# Altium footprint library PcbLib1.PcbLib: 264 footprints (part 7 of 17)
Each footprint in its own frame and in the unit in brackets; x right, y up, seen from the top. Pads: shape width x height; smd on the part's side, far side on the other; paste and mask are expansions set on the pad; w line width, h text height; cw(c..) or ccw(c..) is an arc to the next point about the centre after c.
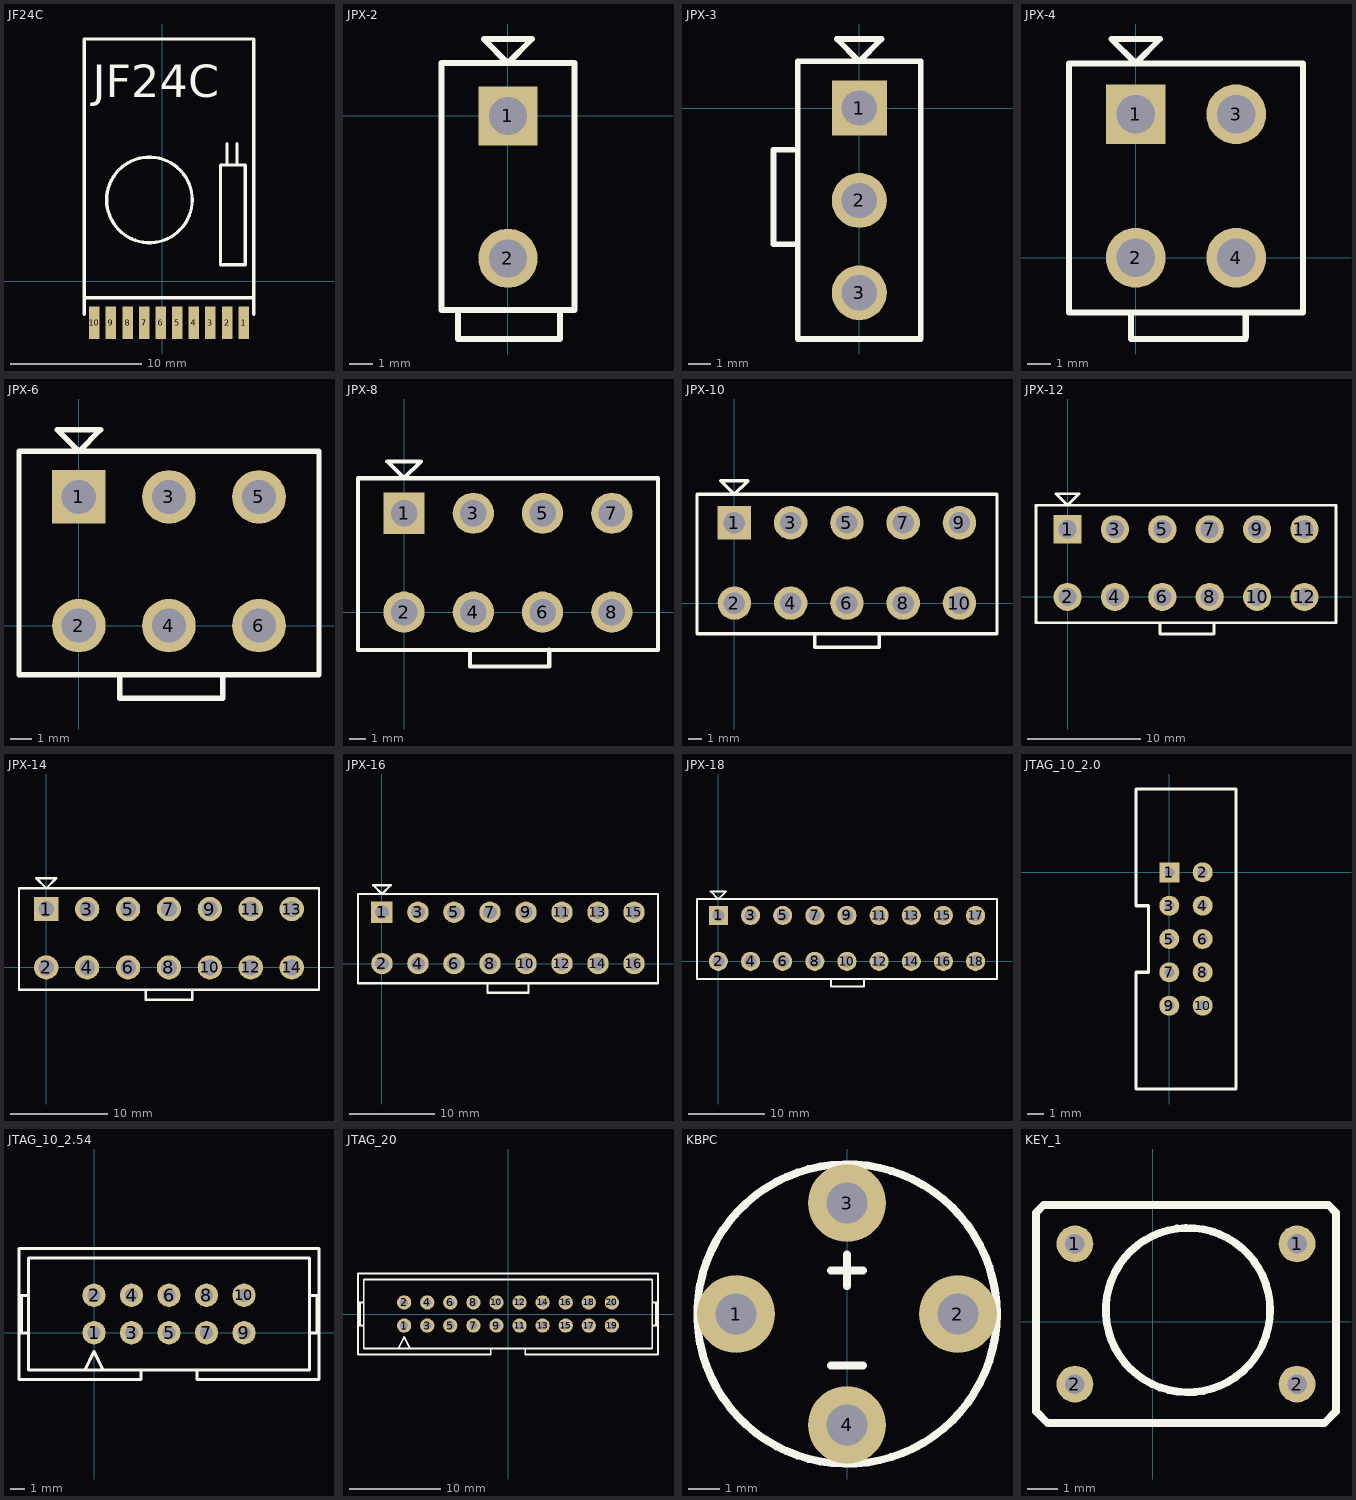
[diagram p6: the footprints below, top view; thin cyan lines are the x and y axes]

## JF24C [mm]
height 2
pads (10):
  rect 0.8x2.5 smd: 1(6.223,-3.175) 2(4.953,-3.175) 3(3.683,-3.175) 4(2.413,-3.175) 5(1.143,-3.175) 6(-0.127,-3.175) 7(-1.397,-3.175) 8(-2.667,-3.175) 9(-3.937,-3.175) 10(-5.207,-3.175)
Top Overlay:
  circle w0.254: c-0.991,6.223 r3.277
  lines w0.254: -5.969,-2.54 -5.969,18.542 6.985,18.542 6.985,-2.54 ; -5.969,-1.27 6.985,-1.27 ; 4.953,10.541 4.953,8.89 5.08,8.89 ; 5.715,8.89 5.715,10.541 ; 4.445,1.27 4.445,8.89 6.35,8.89 6.35,1.27 4.445,1.27
  text "JF24C" at -5.334,14.097 h2.5

## JPX-2 [mm] "PIN:4.2*6mm;H:13mm;HOLE:1.4mm;"
height 13
pads (2):
  rect 2.5x2.5 hole 1.6: 1(0,0)
  round 2.5 hole 1.6: 2(0,-6)
Top Overlay:
  lines w0.254: -2.1,-8.3 -2.1,-9.4 2.2,-9.4 ; 2.2,-9.316 2.2,-8.2 ; -2.794,-8.186 -2.794,2.228 2.8,2.228 2.8,-8.186 -2.794,-8.186 ; -1.016,3.244 1.016,3.244 0,2.228 -1.016,3.244

## JPX-3 [mm] "PIN:4.2*6mm;H:13mm;HOLE:1.4mm;"
height 13
pads (3):
  rect 2.5x2.5 hole 1.6: 1(0,0)
  round 2.5 hole 1.6: 2(0,-4.2) 3(0,-8.4)
Top Overlay:
  lines w0.254: -3.916,-1.9 -2.8,-1.9 ; -3.9,-1.9 -3.9,-6.2 -2.8,-6.2 ; -2.794,-10.5 2.8,-10.5 2.8,2.128 -2.794,2.128 -2.794,-10.5 ; -1.016,3.144 0,2.128 1.016,3.144 -1.016,3.144

## JPX-4 [mm] "PIN:4.2*6mm;H:13mm;HOLE:1.4mm;"
height 13
pads (4):
  rect 2.5x2.5 hole 1.6: 1(0,6)
  round 2.5 hole 1.6: 2(0,0) 3(4.2,6) 4(4.2,0)
Top Overlay:
  lines w0.254: -0.2,-2.4 -0.2,-3.4 4.598,-3.4 ; 4.6,-3.316 4.6,-2.3 ; -2.794,-2.286 7,-2.286 7,8.128 -2.794,8.128 -2.794,-2.286 ; -1.016,9.144 0,8.128 1.016,9.144 -1.016,9.144

## JPX-6 [mm] "PIN:4.2*6mm;H:13mm;HOLE:1.4mm;"
height 13
pads (6):
  rect 2.5x2.5 hole 1.6: 1(0,6)
  round 2.5 hole 1.6: 2(0,0) 3(4.2,6) 4(4.2,0) 5(8.4,6) 6(8.4,0)
Top Overlay:
  lines w0.254: 1.9,-3.3 1.9,-2.3 ; 1.902,-3.4 6.7,-3.4 ; 6.7,-3.316 6.7,-2.3 ; -2.794,-2.286 11.2,-2.286 11.2,8.128 -2.794,8.128 -2.794,-2.286 ; -1.016,9.144 0,8.128 1.016,9.144 -1.016,9.144

## JPX-8 [mm] "PIN:4.2*6mm;H:13mm;HOLE:1.4mm;"
height 13
pads (8):
  rect 2.5x2.5 hole 1.6: 1(0,6)
  round 2.5 hole 1.6: 2(0,0) 3(4.2,6) 4(4.2,0) 5(8.4,6) 6(8.4,0) 7(12.6,6) 8(12.6,0)
Top Overlay:
  lines w0.254: 4,-2.3 4,-3.3 8.798,-3.3 ; 8.8,-3.3 8.8,-2.284 ; -2.794,-2.286 15.4,-2.286 15.4,8.128 -2.794,8.128 -2.794,-2.286 ; -1.016,9.144 0,8.128 1.016,9.144 -1.016,9.144

## JPX-10 [mm] "PIN:4.2*6mm;H:13mm;HOLE:1.4mm;"
height 13
pads (10):
  rect 2.5x2.5 hole 1.6: 1(0,6)
  round 2.5 hole 1.6: 2(0,0) 3(4.2,6) 4(4.2,0) 5(8.4,6) 6(8.4,0) 7(12.6,6) 8(12.6,0) 9(16.8,6) 10(16.8,0)
Top Overlay:
  lines w0.254: 6,-3.3 6,-2.284 ; 6.002,-3.3 10.8,-3.3 10.8,-2.284 ; 10.2,-3.3 10.202,-3.302 ; -2.794,-2.286 19.6,-2.286 19.6,8.128 -2.794,8.128 -2.794,-2.286 ; -1.016,9.144 0,8.128 1.016,9.144 -1.016,9.144

## JPX-12 [mm] "PIN:4.2*6mm;H:13mm;HOLE:1.4mm;"
height 13
pads (12):
  rect 2.5x2.5 hole 1.6: 1(0,6)
  round 2.5 hole 1.6: 2(0,0) 3(4.2,6) 4(4.2,0) 5(8.4,6) 6(8.4,0) 7(12.6,6) 8(12.6,0) 9(16.8,6) 10(16.8,0) 11(21,6) 12(21,0)
Top Overlay:
  lines w0.254: 8.2,-2.284 8.2,-3.3 12.998,-3.3 ; 10.2,-3.3 10.202,-3.302 ; 13,-3.3 13,-2.284 ; -2.794,-2.286 23.8,-2.286 23.8,8.128 -2.794,8.128 -2.794,-2.286 ; -1.016,9.144 0,8.128 1.016,9.144 -1.016,9.144

## JPX-14 [mm] "PIN:4.2*6mm;H:13mm;HOLE:1.4mm;"
height 13
pads (14):
  rect 2.5x2.5 hole 1.6: 1(0,6)
  round 2.5 hole 1.6: 2(0,0) 3(4.2,6) 4(4.2,0) 5(8.4,6) 6(8.4,0) 7(12.6,6) 8(12.6,0) 9(16.8,6) 10(16.8,0) 11(21,6) 12(21,0) 13(25.2,6) 14(25.2,0)
Top Overlay:
  lines w0.254: 10.2,-2.284 10.2,-3.3 10.202,-3.302 15,-3.302 15,-2.286 ; -2.794,-2.286 -2.794,8.128 28,8.128 28,-2.286 -2.794,-2.286 ; -1.016,9.144 1.016,9.144 0,8.128 -1.016,9.144

## JPX-16 [mm]
height 13
pads (16):
  rect 2.5x2.5 hole 1.6: 1(0,6)
  round 2.5 hole 1.6: 2(0,0) 3(4.2,6) 4(4.2,0) 5(8.4,6) 6(8.4,0) 7(12.6,6) 8(12.6,0) 9(16.8,6) 10(16.8,0) 11(21,6) 12(21,0) 13(25.2,6) 14(25.2,0) 15(29.4,6) 16(29.4,0)
Top Overlay:
  lines w0.254: 12.3,-3.4 17.1,-3.4 ; 12.3,-3.316 12.3,-2.3 ; 17.1,-3.316 17.1,-2.3 ; -2.794,-2.286 32.2,-2.286 32.2,8.128 -2.794,8.128 -2.794,-2.286 ; -1.016,9.144 0,8.128 1.016,9.144 -1.016,9.144

## JPX-18 [mm]
height 13
pads (18):
  rect 2.5x2.5 hole 1.6: 1(0,6)
  round 2.5 hole 1.6: 2(0,0) 3(4.2,6) 4(4.2,0) 5(8.4,6) 6(8.4,0) 7(12.6,6) 8(12.6,0) 9(16.8,6) 10(16.8,0) 11(21,6) 12(21,0) 13(25.2,6) 14(25.2,0) 15(29.4,6) 16(29.4,0) 17(33.6,6) 18(33.6,0)
Top Overlay:
  lines w0.254: 14.732,-2.286 14.732,-3.302 19.05,-3.302 19.05,-2.286 ; -2.794,-2.286 -2.794,8.128 36.4,8.128 36.4,-2.286 -2.794,-2.286 ; -1.016,9.144 1.016,9.144 0,8.128 -1.016,9.144

## JTAG_10_2.0 [mm] "2.0"
pads (10):
  rect 1.2x1.2 hole 0.6: 1(0,0)
  round 1.2 hole 0.6: 2(2,0) 3(0,-2) 4(2,-2) 5(0,-4) 6(2,-4) 7(0,-6) 8(2,-6) 9(0,-8) 10(2,-8)
Top Overlay:
  lines w0.2: -2,-13 -2,-6 -1.25,-6 -1.25,-2 -2,-2 -2,3.25 -2,5 4,5 4,-13 -2,-13

## JTAG_10_2.54 [mil] "JTAG,20PIN"
height 393.7
pads (10):
  round 62 hole 35: 1(0,0) 2(0,100) 3(100,0) 4(100,100) 5(200,0) 6(200,100) 7(300,0) 8(300,100) 9(400,0) 10(400,100)
Top Overlay:
  rectangle: 590,0 600,100
  rectangle: -200,0 -190,100
  lines w8: -175,0 -200,0 -200,100 -175,100 ; -25,-100 0,-50 25,-100 ; 125,-105 125,-125 -200,-125 -200,225 600,225 600,-125 275,-125 275,-100 ; 505,-100 575,-100 575,200 -175,200 -175,-100 375,-100 525,-100 ; 575,0 600,0 ; 575,100 600,100

## JTAG_20 [mil] "JTAG,20PIN"
height 393.7
pads (20):
  round 62 hole 35: 1(-450,-50) 2(-450,50) 3(-350,-50) 4(-350,50) 5(-250,-50) 6(-250,50) 7(-150,-50) 8(-150,50) 9(-50,-50) 10(-50,50) 11(50,-50) 12(50,50) 13(150,-50) 14(150,50) 15(250,-50) 16(250,50) 17(350,-50) 18(350,50) 19(450,-50) 20(450,50)
Top Overlay:
  lines w8: -650,-50 -625,-50 ; -650,50 -625,50 ; -641.67,-50 -641.67,50 ; -475,-150 -450,-100 -425,-150 ; -339.57,-175 -75,-175 -75,-150 ; -325,-175 -650,-175 -650,175 650,175 650,-175 325,-175 75,-175 75,-150 ; 625,-50 650,-50 ; 625,50 650,50 ; 641.67,-50 641.67,50 ; -75,-150 75,-150 ; -75,-150 -625,-150 -625,150 625,150 625,-150 75,-150

## KBPC [mm] "2W10"
height 5
pads (4):
  round 2.5 hole 1.3: 1(-3.556,12.7) 2(3.556,12.7) 3(0,16.256) 4(0,9.144)
Top Overlay:
  circle w0.254: c0,12.7 r4.8
  lines w0.254: -0.508,11.049 0.508,11.049 ; -0.508,14.097 0,14.097 0.508,14.097 ; 0,13.589 0,14.605

## KEY_1 [mm] "KEY?"
height 5
pads (4):
  round 1.2 hole 0.635: 1(-2.54,2.54) 1(4.699,2.54) 2(-2.54,-2.032) 2(4.699,-2.032)
Top Overlay:
  circle w0.254: c1.143,0.381 r2.679
  lines w0.254: -3.81,3.048 -3.81,3.556 -3.556,3.81 ; -3.81,3.302 -3.81,-2.921 -3.429,-3.302 5.588,-3.302 5.969,-2.921 5.969,3.556 5.715,3.81 -3.556,3.81 ; -2.921,3.81 -3.556,3.81